# Altium schematic symbol library 172448-0004.SchLib: 1 symbol
Pins are listed as number, name and electrical type; pins without a type are passive.

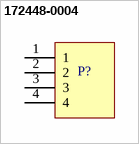
[diagram p0: symbol 172448-0004]

## 172448-0004
designator P?
Mini-Fit 4.2, 4 PIN Right Angle
pins: 1, 2, 3, 4